# EAGLE library part CLX6F-FKC-CKNNQDGBB7A363 (library CLX6F-LED)
LED Tri-Color Blue/Green/Red 470nm/527nm/630nm Automotive 6-Pin PLCC T/R
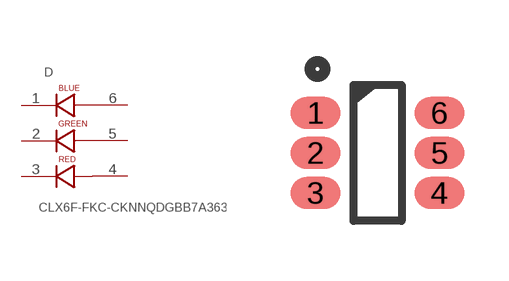
[diagram p0: symbol with the pads of SOJ100P350X290-6N; footprint SOJ100P350X290-6N]

Designator prefix D

## CLX6F-FKC-CKNNQDGBB7A363 (AVAILABILITY: Unavailable; DESCRIPTION: Full Rank, Tape & Reel / 2800 Pcs/Reel; MF: Cree Inc.; MP: CLX6F-FKC-CKNNQDGBB7A363; PACKAGE: PLCC-6 Cree; PRICE: None)  [SOJ100P350X290-6N]
1  1  pas
2  2  pas
3  3  pas
4  4  pas
5  5  pas
6  6  pas

## Footprint SOJ100P350X290-6N (pad centres in mm)
smd 1.25 x 0.8: 1 -1.55,1; 2 -1.55,0; 3 -1.55,-1; 4 1.55,-1; 5 1.55,0; 6 1.55,1